# Altium schematic symbol library Transducer.SchLib: 2 symbols
Pins are listed as number, name and electrical type; pins without a type are passive.

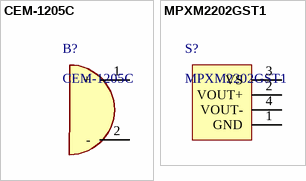
[diagram p0: symbols CEM-1205C to MPXM2202GST1]

## CEM-1205C
designator B?
BUZZER MAGNETIC 5V 12MM RADIAL; Manufacturer: CUI Inc; Value: CEM-1205C; Mount Type: PTH; Supplier 1: Digi-Key; Supplier Part Number 1: 102-1124-ND
footprint CEM-1205C
pins: 1 +, 2 -

## MPXM2202GST1
designator S?
SENS PRESSURE 29 PSI MAX MPAK; Manufacturer: Freescale Semiconductor - NXP; Value: MPXM2202GST1; Mount Type: SMD; Supplier 1: Farnell; Supplier Part Number 1: 1555614; Supplier 2: Mouser; Supplier Part Number 2: 841-MPXM2202GS; Supplier 3: Newark; Supplier Part Number 3: 75C3886; Supplier 4: Digi-Key; Supplier Part Number 4: MPXM2202GS-ND
pins: 1 GND (power), 2 VOUT+, 3 VS, 4 VOUT-